# EAGLE library part L6506 (library ST Microelectronics)
CURRENT CONTROLLER FOR STEPPING MOTORS
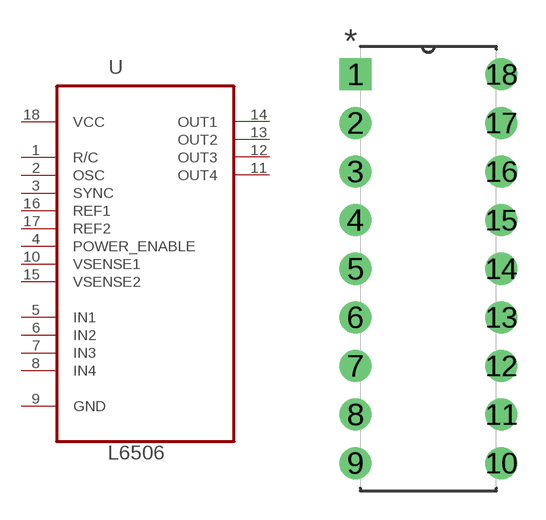
[diagram p46: symbol with the pads of DIP254P762X393-18; footprint DIP254P762X393-18]

Designator prefix U

## L6506 (MPN: L6506; OC_FARNELL: 1094230; OC_NEWARK: 89K0769; PACKAGE: DIP-18; SUPPLIER: STMICROELECTRONICS)  [DIP254P762X393-18]
1  R/C  in
2  OSC  in
3  SYNC  in
4  POWER_ENABLE  in
5  IN1  in
6  IN2  in
7  IN3  in
8  IN4  in
9  GND  in
10  VSENSE1  in
11  OUT4  out
12  OUT3  out
13  OUT2  out
14  OUT1  out
15  VSENSE2  in
16  REF1  in
17  REF2  in
18  VCC  pwr

## Footprint DIP254P762X393-18 (pad centres in mm)
drill 1.118 square: 1 -7.62,20.32
drill 1.118: 2 -7.62,17.78; 3 -7.62,15.24; 4 -7.62,12.7; 5 -7.62,10.16; 6 -7.62,7.62; 7 -7.62,5.08; 8 -7.62,2.54; 9 -7.62,0; 10 0,0; 11 0,2.54; 12 0,5.08; 13 0,7.62; 14 0,10.16; 15 0,12.7; 16 0,15.24; 17 0,17.78; 18 0,20.32